# Altium schematic symbol library Quartz.SchLib: 4 symbols
Pins are listed as number, name and electrical type; pins without a type are passive.

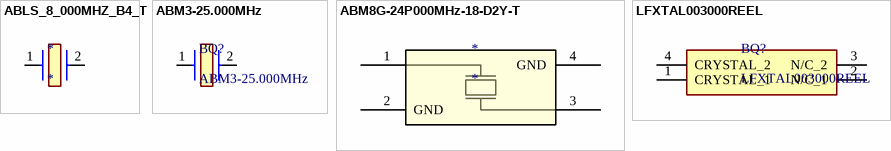
[diagram p0: symbols ABLS_8_000MHZ_B4_T to LFXTAL003000REEL]

## ABLS_8_000MHZ_B4_T
designator *
footprint ABLS_8_000MHz-B4_T
pins: 1, 2

## ABM3-25.000MHz
designator BQ?
footprint ABM3-25.000MHz
pins: 1, 2

## ABM8G-24P000MHz-18-D2Y-T
designator *
footprint ABM8G-24P000MHz-18-D2Y-T
pins: 1, 2 GND, 3, 4 GND

## LFXTAL003000REEL
designator BQ?
footprint LFXTAL003000REEL
pins: 1 CRYSTAL_1, 2 N/C_1, 3 N/C_2, 4 CRYSTAL_2